# Altium integrated library Motorola Logic Timer.IntLib: 4 symbols
Pins are listed as number, name and electrical type; pins without a type are passive.

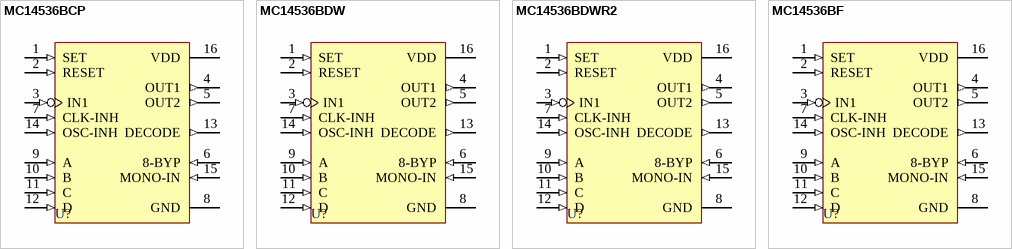
[diagram p0: symbols MC14536BCP to MC14536BF]

## MC14536BCP
designator U?
Programmable Timer; Published: 28-Feb-2003; LatestRevisionDate: 06-Jun-2005; LatestRevisionNote: Stylized 3D Model Added; DatasheetVersion: 2/01, Rev. 7; PackageReference: 648-08; Publisher: Altium Limited; PackageDescription: DIP; 16 Leads; Row Spacing 7.62 mm; Pitch 2.54 mm; Code_JEDEC: MS-001-BB; ComponentLink1Description: Manufacturer Link; ComponentLink1URL: http://www.onsemi.com/site/products/parametrics/0,4446,401,00.html; ComponentLink2Description: Datasheet; ComponentLink2URL: http://www.onsemi.com/pub/Collateral/MC14536B-D.PDF
footprint 648-08 (DIP; 16 Leads; Row Spacing 7.62 mm; Pitch 2.54 mm)
3D model 648-08 (DIP; 16 Leads; Row Spacing 7.62 mm; Pitch 2.54 mm)
pins: 1 SET (in), 2 RESET (in), 3 IN1 (in), 4 OUT1 (out), 5 OUT2 (out), 6 8-BYP (in), 7 CLK-INH (in), 8 GND (power), 9 A (in), 10 B (in), 11 C (in), 12 D (in), 13 DECODE (out), 14 OSC-INH (in), 15 MONO-IN (in), 16 VDD (power)

## MC14536BDW
designator U?
Programmable Timer; Published: 28-Feb-2003; LatestRevisionDate: 13-Apr-2006; LatestRevisionNote: IPC-7351 Footprint Added.; DatasheetVersion: 2/01, Rev. 7; PackageVersion: Nov-1999; PackageReference: 751G-03; Publisher: Altium Limited; PackageDescription: 16-Pin Small Outline Integrated Circuit 1.27 mm Pitch; ComponentLink1Description: Manufacturer Link; ComponentLink1URL: http://www.onsemi.com/site/products/parametrics/0,4446,401,00.html; ComponentLink2Description: Datasheet; ComponentLink2URL: http://www.onsemi.com/pub/Collateral/MC14536B-D.PDF
footprint 751G-03_N (SOIC, 16-Leads, Body 10.3x7.5mm, Pitch 1.27mm, IPC Medium Density)
footprint 751G-03_L (SOIC, 16-Leads, Body 10.3x7.5mm, Pitch 1.27mm, IPC High Density)
footprint 751G-03_M (SOIC, 16-Leads, Body 10.3x7.5mm, Pitch 1.27mm, IPC Low Density)
3D model 751G-03 (16-Pin Small Outline Integrated Circuit 1.27 mm Pitch)
pins: 1 SET (in), 2 RESET (in), 3 IN1 (in), 4 OUT1 (out), 5 OUT2 (out), 6 8-BYP (in), 7 CLK-INH (in), 8 GND (power), 9 A (in), 10 B (in), 11 C (in), 12 D (in), 13 DECODE (out), 14 OSC-INH (in), 15 MONO-IN (in), 16 VDD (power)

## MC14536BDWR2
designator U?
Programmable Timer; Published: 28-Feb-2003; LatestRevisionDate: 13-Apr-2006; LatestRevisionNote: IPC-7351 Footprint Added.; DatasheetVersion: 2/01, Rev. 7; PackageVersion: Nov-1999; PackageReference: 751G-03; Publisher: Altium Limited; PackageDescription: 16-Pin Small Outline Integrated Circuit 1.27 mm Pitch; ComponentLink1Description: Manufacturer Link; ComponentLink1URL: http://www.onsemi.com/site/products/parametrics/0,4446,401,00.html; ComponentLink2Description: Datasheet; ComponentLink2URL: http://www.onsemi.com/pub/Collateral/MC14536B-D.PDF
footprint 751G-03_N (SOIC, 16-Leads, Body 10.3x7.5mm, Pitch 1.27mm, IPC Medium Density)
footprint 751G-03_L (SOIC, 16-Leads, Body 10.3x7.5mm, Pitch 1.27mm, IPC High Density)
footprint 751G-03_M (SOIC, 16-Leads, Body 10.3x7.5mm, Pitch 1.27mm, IPC Low Density)
3D model 751G-03 (16-Pin Small Outline Integrated Circuit 1.27 mm Pitch)
pins: 1 SET (in), 2 RESET (in), 3 IN1 (in), 4 OUT1 (out), 5 OUT2 (out), 6 8-BYP (in), 7 CLK-INH (in), 8 GND (power), 9 A (in), 10 B (in), 11 C (in), 12 D (in), 13 DECODE (out), 14 OSC-INH (in), 15 MONO-IN (in), 16 VDD (power)

## MC14536BF
designator U?
Programmable Timer; Published: 28-Feb-2003; LatestRevisionDate: 13-Apr-2006; LatestRevisionNote: IPC-7351 Footprint Added.; DatasheetVersion: 2/01, Rev. 7; PackageVersion: Mar-2000; PackageReference: 966-01; Publisher: Altium Limited; PackageDescription: 16-Pin Small Outline Package 1.27 mm Pitch; ComponentLink1Description: Manufacturer Link; ComponentLink1URL: http://www.onsemi.com/site/products/parametrics/0,4446,401,00.html; ComponentLink2Description: Datasheet; ComponentLink2URL: http://www.onsemi.com/pub/Collateral/MC14536B-D.PDF
footprint 966-01_N (SOP, 16-Leads, Body 10.2x5.3mm, Pitch 1.27mm, IPC Medium Density)
footprint 966-01_L (SOP, 16-Leads, Body 10.2x5.3mm, Pitch 1.27mm, IPC High Density)
footprint 966-01_M (SOP, 16-Leads, Body 10.2x5.3mm, Pitch 1.27mm, IPC Low Density)
3D model 966-01 (16-Pin Small Outline Package 1.27 mm Pitch)
pins: 1 SET (in), 2 RESET (in), 3 IN1 (in), 4 OUT1 (out), 5 OUT2 (out), 6 8-BYP (in), 7 CLK-INH (in), 8 GND (power), 9 A (in), 10 B (in), 11 C (in), 12 D (in), 13 DECODE (out), 14 OSC-INH (in), 15 MONO-IN (in), 16 VDD (power)